# Altium schematic symbol library SnapEDAsch.SchLib: 1 symbol
Pins are listed as number, name and electrical type; pins without a type are passive.

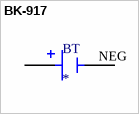
[diagram p0: symbol BK-917]

## BK-917
designator BT
BATTERY RETAINER COIN PC PIN; MP: BK-917; MF: MPD; Price: None; Package: Non-Standard MPD; Availability: Unavailable; SnapEDA_Link: https://www.snapeda.com/parts/BK-917/Memory%20Protection%20Devices/view-part/4219668/?ref=snap; Value: *
footprint BAT_BK-917
pins: 1+ POS, 2+ POS, 3+ POS, 4+ POS, NEG